# Altium footprint library OledClock.PcbLib: 22 footprints (part 1 of 2)
Each footprint in its own frame and in the unit in brackets; x right, y up, seen from the top. Pads: shape width x height; smd on the part's side, far side on the other; paste and mask are expansions set on the pad; w line width, h text height; cw(c..) or ccw(c..) is an arc to the next point about the centre after c.
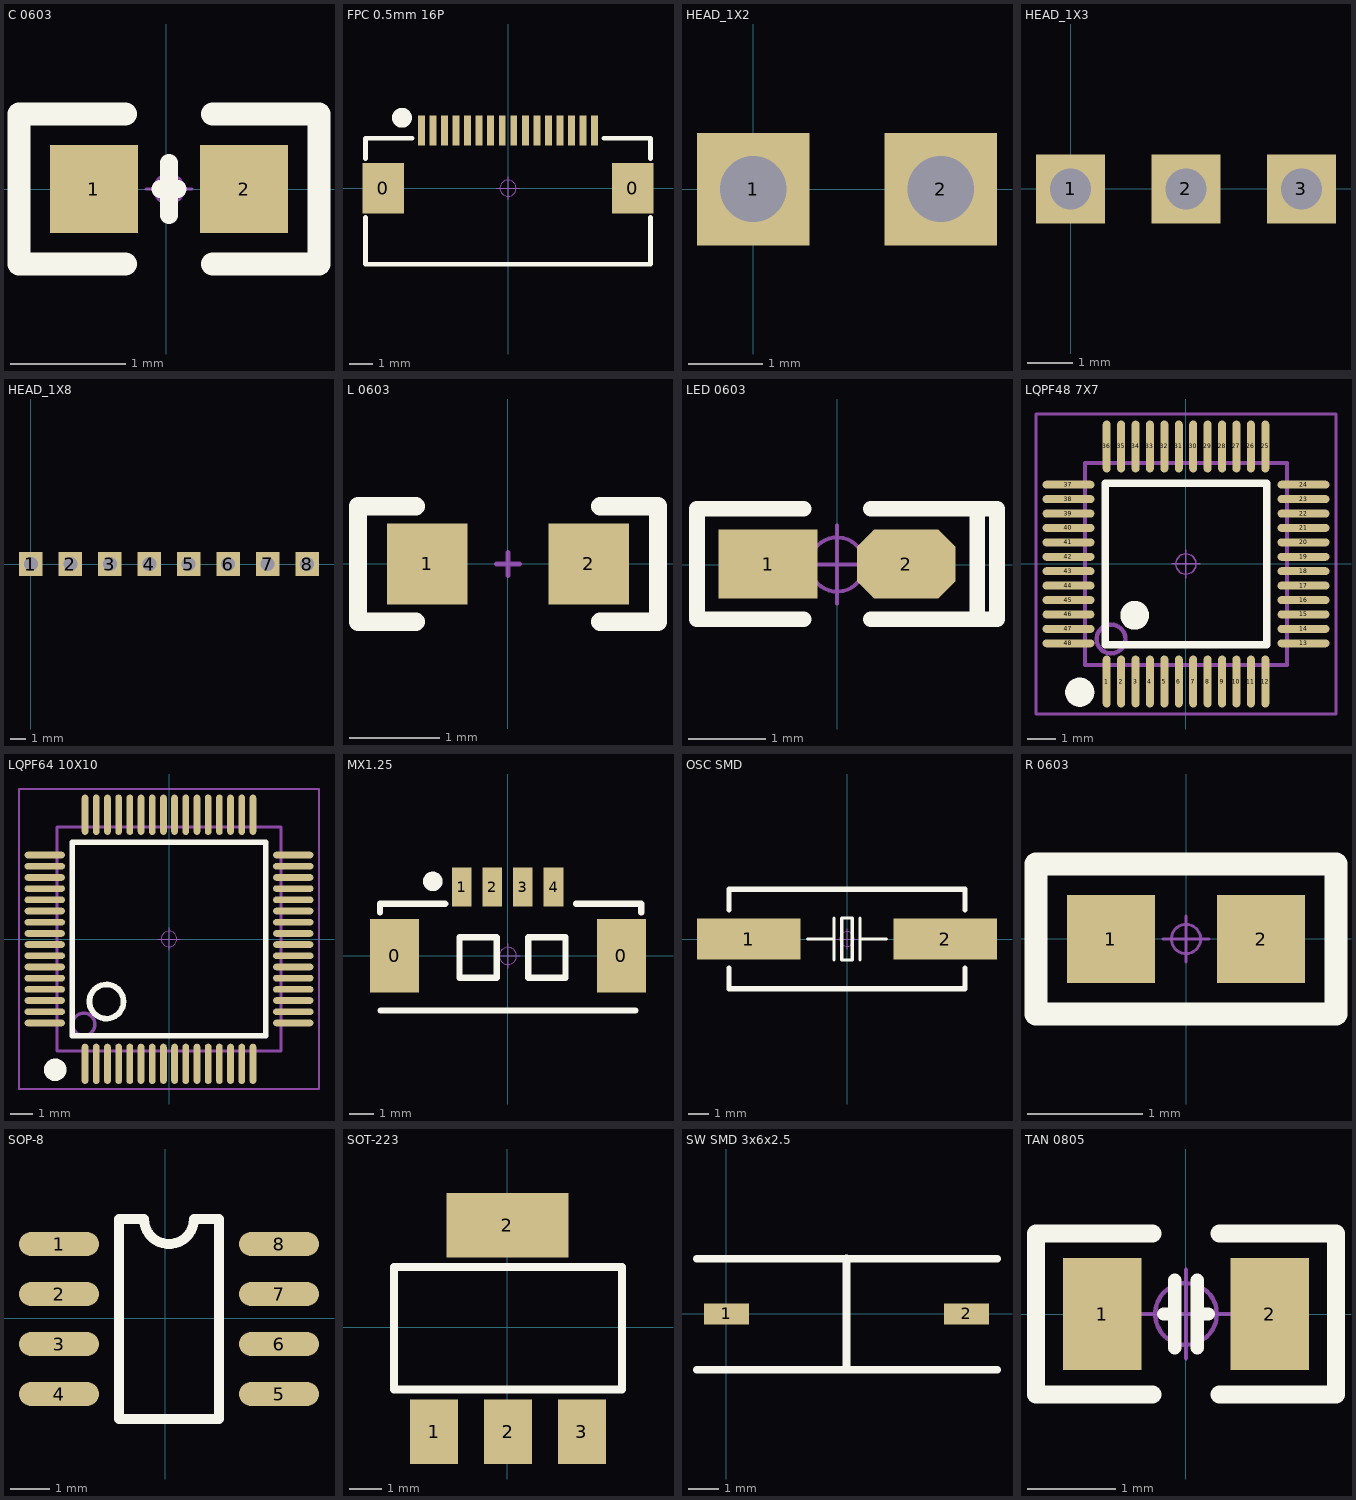
[diagram p0: the footprints below, top view; thin cyan lines are the x and y axes]

## C 0603 [mil]
pads (2):
  rect 30x30 smd: 1(-24.59,0) 2(26.59,0)
Top Overlay:
  lines w6: -2,0 1,0 4,0 ; 1,-9 1,9
  lines w8: -14,-25.59 -50.18,-25.59 -50.18,25.59 -14,25.59 ; 16,-25.59 52.18,-25.59 52.18,25.59 16,25.59
Mechanical 15:
  circle w1: c1,0 r5
  lines w1: -6.87,0 8.88,0 ; 1,-7.87 1,7.88
3D body "C 0603.STEP": height 31.89, standoff -0.39, extent -30.49,-16.14 32.5,16.14

## FPC 0.5mm 16P [mm]
pads (18):
  rect 1.8x2.2 smd: 0(-5.4,0) 0(5.4,0)
  rect 0.3x1.3 smd: 1(-3.75,2.497) 2(-3.25,2.497) 3(-2.75,2.497) 4(-2.25,2.497) 5(-1.75,2.497) 6(-1.25,2.497) 7(-0.75,2.497) 8(-0.25,2.497) 9(0.25,2.497) 10(0.75,2.497) 11(1.25,2.497) 12(1.75,2.497) 13(2.25,2.497) 14(2.75,2.497) 15(3.25,2.497) 16(3.75,2.497)
Top Overlay:
  circle w0.5: c-4.594,3.048 r0.18
  lines w0.2: -6.175,-1.27 -6.175,-3.302 6.175,-3.302 6.175,-1.27 ; -6.175,1.27 -6.175,2.159 -4.143,2.159 ; 4.143,2.159 6.175,2.159 6.175,1.27
Mechanical 15:
  circle w0.05: c0,0 r0.35
  lines w0.05: -0.5,0 0.5,0 ; 0,-0.5 0,0.5
3D body "FPC0.5 2H-S-W-16P.STEP": height 2, standoff -0.01, extent -6.1,-3.15 6.1,2.85

## HEAD_1X2 [mil]
pads (2):
  rect 60x60 hole 35.43: 1(0,0) 2(100,0)

## HEAD_1X3 [mil]
pads (3):
  rect 60x60 hole 35.43: 1(0,0) 2(100,0) 3(200,0)

## HEAD_1X8 [mil]
pads (8):
  rect 60x60 hole 35.43: 1(0,0) 2(100,0) 3(200,0) 4(300,0) 5(400,0) 6(500,0) 7(600,0) 8(700,0)

## L 0603 [mil]
pads (2):
  rect 35x35 smd: 1(-35,0) 2(35,0)
Top Overlay:
  lines w8: -40,-25 -65,-25 -65,25 -40,25 ; 40,-25 65,-25 65,25 40,25
Mechanical 15:
  lines w2: -5,0 5,0 ; 0,-5 0,0 0,5
3D body "0603.STEP": height 31.5, standoff -0.11, extent -31.5,-15.75 31.5,15.75

## LED 0603 [mil]
pads (2):
  rect 50x35 smd: 1(-35,0.26)
  oct 50x35 smd: 2(35,0.26)
Top Overlay:
  lines w8: -17,-27.74 -71,-27.74 -71,-25.74 -71,28.26 -70,28.26 -17,28.26 ; 17,-27.74 70,-27.74 ; 17,28.26 71,28.26 81,28.26 81,-27.74 71,-27.74 71,26.26
Mechanical 15:
  circle w1.97: c0,0 r13.78
  lines w1.97: -19.68,0 19.68,0 ; 0,-19.68 0,19.68
3D body "LED 0603-B.STEP": height 18.36, standoff -0.16, extent -31.49,-15.79 31.5,15.79
3D body "LED 0603玻璃罩.STEP": height 23.82, standoff 8.07, extent -23.58,-15.79 23.58,15.79

## LQPF48 7X7 [mm]
pads (48):
  oval 0.279x1.8 smd: 1(-2.75,-4.075) 2(-2.25,-4.075) 3(-1.75,-4.075) 4(-1.25,-4.075) 5(-0.75,-4.075) 6(-0.25,-4.075) 7(0.25,-4.075) 8(0.75,-4.075) 9(1.25,-4.075) 10(1.75,-4.075) 11(2.25,-4.075) 12(2.75,-4.075) 25(2.75,4.075) 26(2.25,4.075) 27(1.75,4.075) 28(1.25,4.075) 29(0.75,4.075) 30(0.25,4.075) 31(-0.25,4.075) 32(-0.75,4.075) 33(-1.25,4.075) 34(-1.75,4.075) 35(-2.25,4.075) 36(-2.75,4.075)
  oval 1.8x0.279 smd: 13(4.075,-2.75) 14(4.075,-2.25) 15(4.075,-1.75) 16(4.075,-1.25) 17(4.075,-0.75) 18(4.075,-0.25) 19(4.075,0.25) 20(4.075,0.75) 21(4.075,1.25) 22(4.075,1.75) 23(4.075,2.25) 24(4.075,2.75) 37(-4.075,2.75) 38(-4.075,2.25) 39(-4.075,1.75) 40(-4.075,1.25) 41(-4.075,0.75) 42(-4.075,0.25) 43(-4.075,-0.25) 44(-4.075,-0.75) 45(-4.075,-1.25) 46(-4.075,-1.75) 47(-4.075,-2.25) 48(-4.075,-2.75)
Top Overlay:
  circle w0.508: c-3.683,-4.445 r0.25
  circle w0.5: c-1.778,-1.778 r0.25
  lines w0.254: -2.794,-2.794 -2.794,2.794 2.794,2.794 2.794,-2.794 -2.794,-2.794
Mechanical 13:
  circle w0.15: c-2.6,-2.6 r0.5
  lines w0.15: -3.5,-3.5 3.5,-3.5 3.5,3.5 -3.5,3.5 -3.5,-3.5
Mechanical 15:
  circle w0.05: c0,0 r0.35
  lines w0.05: -0.5,0 0.5,0 ; 0,-0.5 0,0.5
  lines w0.1: -5.2,-5.2 -5.2,5.2 5.2,5.2 5.2,-5.2 -5.2,-5.2
3D body "LQFP48-7x7.STEP": height 1.45, standoff 0, extent -4.503,-4.503 4.503,4.503

## LQPF64 10X10 [mm]
pads (64):
  oval 0.3x1.8 smd: 1(-3.75,-5.575) 2(-3.25,-5.575) 3(-2.75,-5.575) 4(-2.25,-5.575) 5(-1.75,-5.575) 6(-1.25,-5.575) 7(-0.75,-5.575) 8(-0.25,-5.575) 9(0.25,-5.575) 10(0.75,-5.575) 11(1.25,-5.575) 12(1.75,-5.575) 13(2.25,-5.575) 14(2.75,-5.575) 15(3.25,-5.575) 16(3.75,-5.575) 33(3.75,5.55) 34(3.25,5.55) 35(2.75,5.55) 36(2.25,5.55) 37(1.75,5.55) 38(1.25,5.55) 39(0.75,5.55) 40(0.25,5.55) 41(-0.25,5.55) 42(-0.75,5.55) 43(-1.25,5.55) 44(-1.75,5.55) 45(-2.25,5.55) 46(-2.75,5.55) 47(-3.25,5.55) 48(-3.75,5.55)
  oval 1.8x0.3 smd: 17(5.55,-3.75) 18(5.55,-3.25) 19(5.55,-2.75) 20(5.55,-2.25) 21(5.55,-1.75) 22(5.55,-1.25) 23(5.55,-0.75) 24(5.55,-0.25) 25(5.55,0.25) 26(5.55,0.75) 27(5.55,1.25) 28(5.55,1.75) 29(5.55,2.25) 30(5.55,2.75) 31(5.55,3.25) 32(5.55,3.75) 49(-5.55,3.75) 50(-5.55,3.25) 51(-5.55,2.75) 52(-5.55,2.25) 53(-5.55,1.75) 54(-5.55,1.25) 55(-5.55,0.75) 56(-5.55,0.25) 57(-5.55,-0.25) 58(-5.55,-0.75) 59(-5.55,-1.25) 60(-5.55,-1.75) 61(-5.55,-2.25) 62(-5.55,-2.75) 63(-5.55,-3.25) 64(-5.55,-3.75)
Top Overlay:
  circle w0.254: c-2.794,-2.794 r0.762
  circle w0.508: c-5.08,-5.842 r0.25
  lines w0.254: -4.318,-4.318 -4.318,4.318 4.318,4.318 4.318,-4.318 -4.318,-4.318
Mechanical 13:
  circle w0.15: c-3.81,-3.81 r0.5
  lines w0.15: -5,-5 -5,5 5,5 5,-5 -5,-5
Mechanical 15:
  circle w0.05: c0,0 r0.35
  lines w0.05: -0.5,0 0.5,0 ; 0,-0.5 0,0.5
  lines w0.1: -6.7,-6.7 6.7,-6.7 6.7,6.7 -6.7,6.7 -6.7,-6.7
3D body "LQFP64-10x10.STEP": height 1.45, standoff -0.01, extent -6.003,-6.003 6.003,6.003

## MX1.25 [mm]
pads (6):
  rect 2x3 smd: 0(-4.632,0) 0(4.632,0)
  rect 0.8x1.6 smd: 1(-1.889,2.811) 2(-0.639,2.811) 3(0.611,2.811) 4(1.861,2.811)
Top Overlay:
  circle w0.4: c-3.074,3.048 r0.2
  lines w0.254: -5.233,1.778 -5.233,2.134 -2.566,2.134 ; -5.206,-2.228 5.201,-2.228 ; 2.782,2.134 5.449,2.134 5.449,1.778 ; -1.982,-0.889 -1.982,0.762 -0.458,0.762 -0.458,-0.889 -1.982,-0.889 ; 0.826,-0.889 0.826,0.762 2.35,0.762 2.35,-0.889 0.826,-0.889
Mechanical 15:
  circle w0.05: c0,0 r0.35
  lines w0.05: -0.5,0 0.5,0 ; 0,-0.5 0,0.5
3D body "MOLEX1.25-WS-4P.STEP": height 3.4, standoff 0, extent -5.075,-2.1 5.075,3.09

## OSC SMD [mm]
pads (2):
  rect 5x2 smd: 1(-4.75,0) 2(4.75,0)
Top Overlay:
  lines w0.152: -1.905,0 -0.635,0 ; -0.635,-1.016 -0.635,1.016 ; 0.635,-1.016 0.635,1.016 ; 0.635,0 1.905,0 ; -0.254,-1.016 0.254,-1.016 0.254,1.016 -0.254,1.016 -0.254,-1.016
  lines w0.254: -5.7,-1.397 -5.7,-2.4 5.7,-2.4 5.7,-1.397 ; -5.7,1.397 -5.7,2.4 5.7,2.4 5.7,1.397
Mechanical 15:
  circle w0.05: c0,0 r0.35
  lines w0.05: -0.5,0 0.5,0 ; 0,-0.5 0,0.5
3D body "OSC HC-49SMD.STEP": height 4.63, standoff 0.03, extent -6.5,-2.325 6.5,2.325

## R 0603 [mil]
pads (2):
  rect 30x30 smd: 1(-25.59,0) 2(25.59,0)
Top Overlay:
  lines w8: -51.18,-25.59 51.18,-25.59 51.18,25.59 -51.18,25.59 -51.18,-25.59
Mechanical 15:
  circle w1: c0,0 r5
  lines w1: -7.87,0 7.87,0 ; 0,-7.87 0,7.87
3D body "R 0603.STEP": height 15.79, standoff -0.13, extent -31.49,-15.74 31.5,15.75

## SOP-8 [mil]
pads (8):
  oval 80x24 smd: 1(-106,74) 2(-106,24) 3(-106,-26) 4(-106,-76) 5(114,-76) 6(114,-26) 7(114,24) 8(114,74)
Top Overlay:
  lines w10: -46,-101 -46,99 -21,99 ccw(c4,99) 29,99 54,99 54,-101 -46,-101
3D body "SOP8.STEP": height 62.99, standoff 0, extent -108.93,-98.82 128.94,98.82

## SOT-223 [mil]
pads (4):
  rect 59x79 smd: 1(-89.55,-128.29) 2(1.01,-128.29) 3(91.56,-128.29)
  rect 150x79 smd: 2(0.34,125.26)
Top Overlay:
  lines w10: -138.99,-76.29 141.01,-76.29 141.01,73.71 -138.99,73.71 -138.99,-76.29
3D body "SOT-223_MP04A.STEP": height 66.93, standoff 0, extent -127.95,-137 127.95,137.01

## SW SMD 3x6x2.5 [mm]
pads (2):
  rect 1.5x0.7 smd: 1(0,0) 2(8,0)
Top Overlay:
  lines w0.254: -0.983,-1.854 9.017,-1.854 ; -0.983,1.846 9.017,1.846 ; 4,-1.85 4,1.85

## TAN 0805 [mm]
pads (2):
  rect 0.889x1.27 smd: 1(-0.95,0) 2(0.95,0)
Top Overlay:
  lines w0.152: -0.254,0 -0.127,0 ; -0.127,-0.381 -0.127,0.381 ; 0.127,-0.381 0.127,0.381 ; 0.127,0 0.254,0
  lines w0.203: -0.381,-0.914 -1.7,-0.914 -1.7,0.914 -0.381,0.914 ; 0.381,-0.914 1.7,-0.914 1.7,0.914 0.381,0.914
Mechanical 15:
  circle w0.05: c0,0 r0.35
  circle w0.05: c0,0 r0.35
  lines w0.05: -0.5,0 0.5,0 -0.5,0 ; 0,-0.5 0,0.5 0,-0.5
3D body "C 0805.STEP": height 0.51, standoff -0.01, extent -1,-0.61 1,0.61